# Altium schematic symbol library kmilo17pet-Maxim_Sensors.SchLib: 1172 symbols (part 27 of 61)
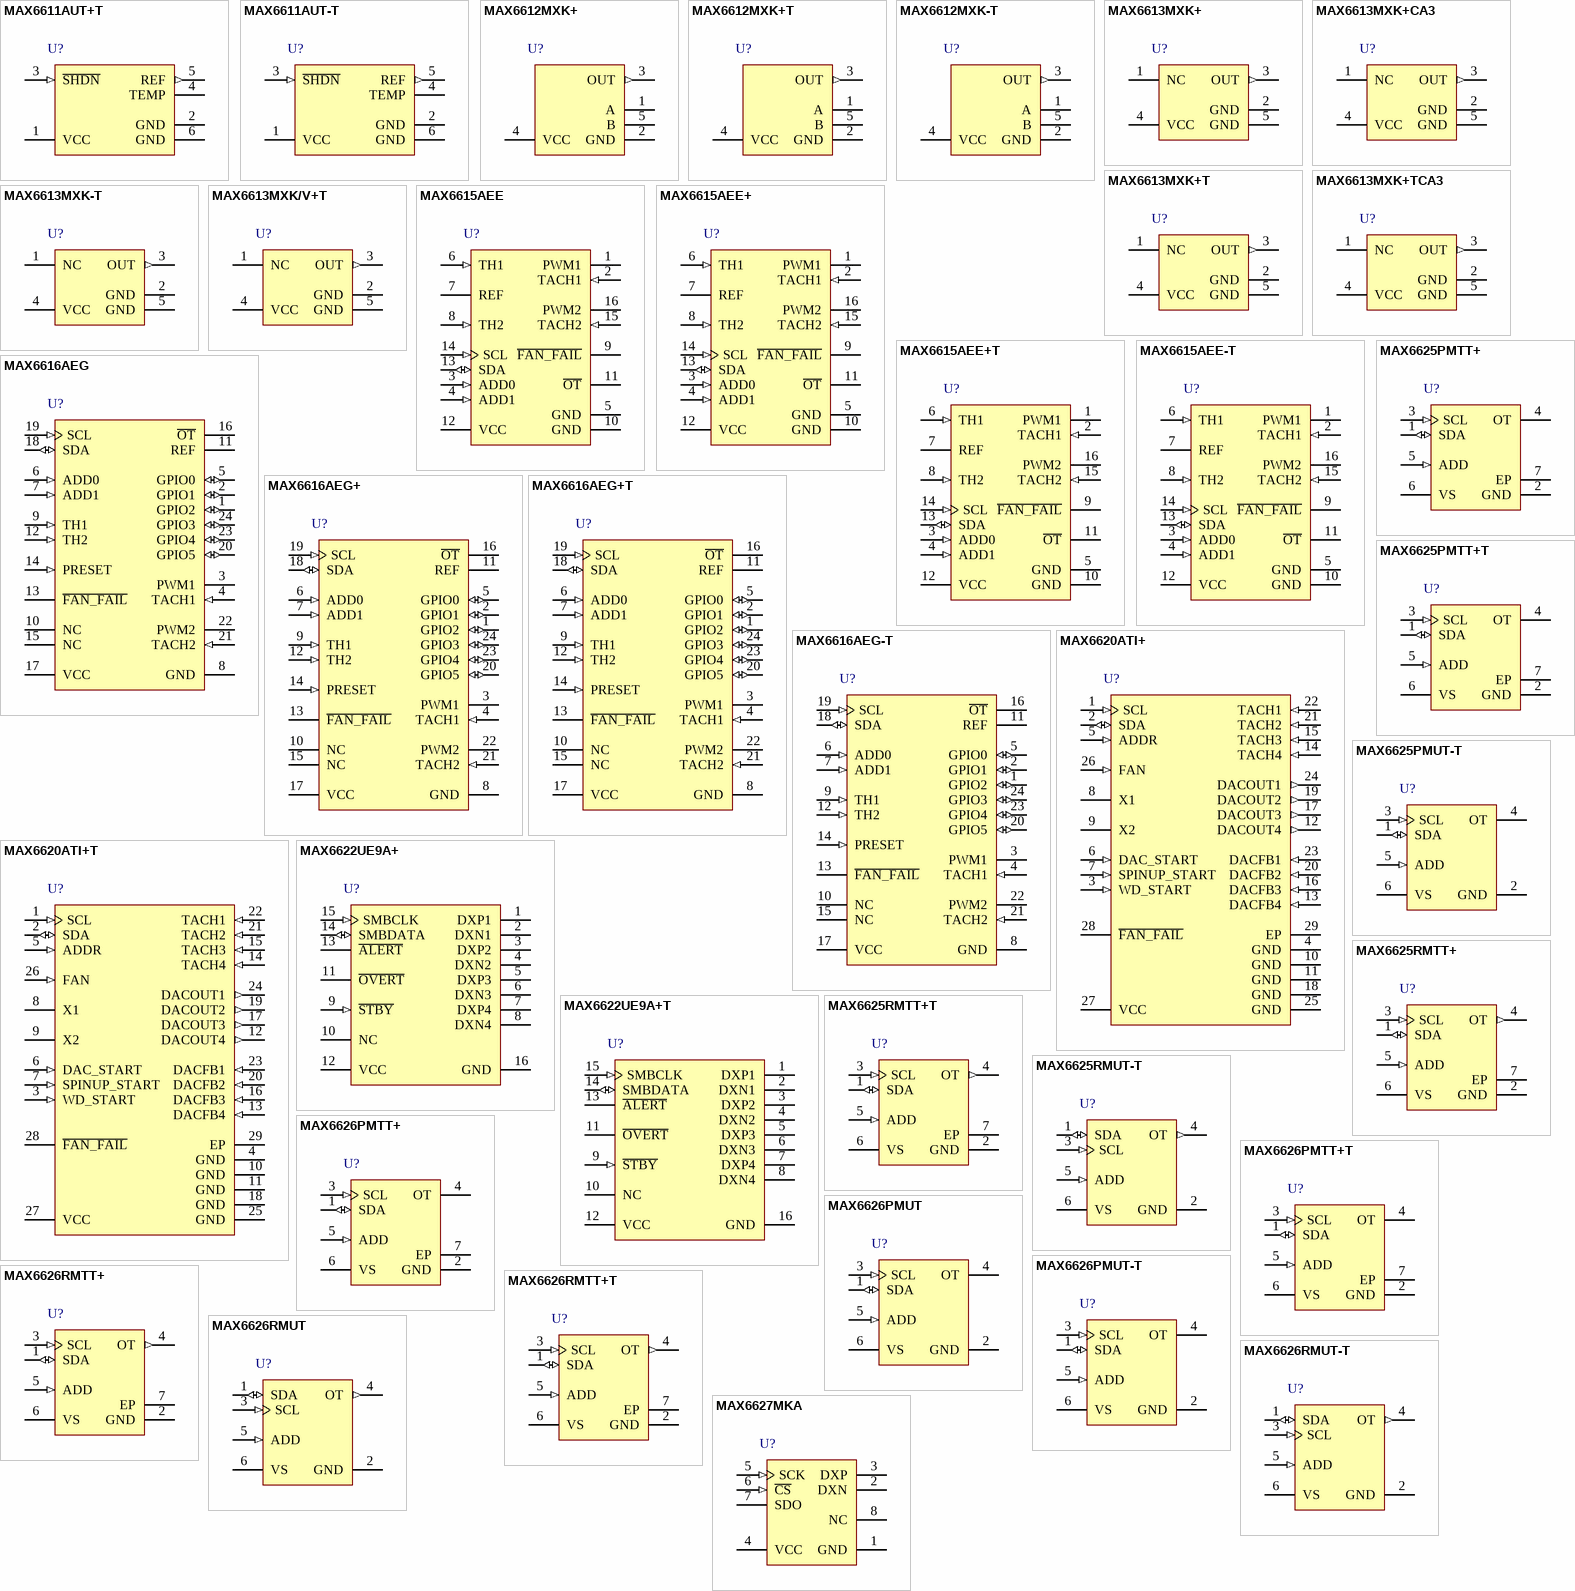
[diagram p59: symbols MAX6611AUT+T to MAX6627MKA]

## MAX6626RMTT+T
designator U?
Temperature Sensor with I2C Interface, 12 Bits Temperature Resolution, -55 to 125 degC, 6-Pin SON (T633+2), Pb-Free, Tape and Reel; Generic Part Number: MAX6626; PartNumber: MAX6626RMTT+T; Alarm Output: Overt; Interface: 2-Wire/I2C/SMBus; Multi Droppable: Yes; Parasite Pwr.: No; DatasheetVersion: Rev. 5; PackageVersion: Rev. J, 08/2009; PackageReference: T633+2; PackageDescription: 6-Pin Plastic Very Very Thin Dual Flatpack No Leads, Exposed Pad, Body 3 x 3 mm, Exposed Pad 2.3 x 1.5 mm, Pitch 0.95 mm; Supplier 1: Digi-Key; Supplier Part Number 1: MAX6626RMTT+T-ND; Supplier 2: Mouser; Supplier Part Number 2: 700-MAX6626RMTTT; Packing: Tape and Reel; Mounting Technology: Surface Mount; Code_JEDEC: MO-229; ComponentLink1Description: Manufacturer URL; ComponentLink1URL: http://www.maximintegrated.com/; ComponentLink2Description: Datasheet; ComponentLink2URL: http://datasheets.maximintegrated.com/en/ds/MAX6625-MAX6626.pdf; ComponentLink3Description: Package Specification; ComponentLink3URL: http://pdfserv.maximintegrated.com/package_dwgs/21-0137.PDF
footprint MAXM-T633+2_V (SON, 6-Leads, Body 3x3mm, Pitch 0.95mm, Thermal Pad 2.3X1.5mm)
pins: 1 SDA (io) "I2C-Compatible Serial Bidirectional Data Line", 2 GND (power) "Power-Supply Ground", 3 SCL (in) "I2C-Compatible Clock Input", 4 OT (out) "Temperature Alarm Output", 5 ADD (in) "I2C-Compatible Address Set Pin: Ground (0), VS (1), SDA (2), SCL (3); see Table 1.", 6 VS (power) "Power-Supply Input, +3V to +5.5V. Bypass VS to GND with a 0.1µF capacitor", 7 EP (power) "Exposed Paddle. Internally connected to GND. Connect to a large ground plane for maximum thermal dissipation."

## MAX6626RMUT
designator U?
Temperature Sensor with I2C Interface, 12 Bits Temperature Resolution, -55 to 125 degC, 6-Pin SOT23 (U6F-6); Generic Part Number: MAX6626; PartNumber: MAX6626RMUT; Alarm Output: Overt; Interface: 2-Wire/I2C/SMBus; Multi Droppable: Yes; Parasite Pwr.: No; DatasheetVersion: Rev. 5; PackageVersion: Rev. N, 08/2012; PackageReference: U6F-6; PackageDescription: 6-Pin Small-Outline Transistor Package, Body 1.625 x 2.9 mm, Pitch 0.95 mm; Supplier 1: Mouser; Supplier Part Number 1: N/A; Mounting Technology: Surface Mount; Code_JEDEC: MO-178; ComponentLink1Description: Manufacturer URL; ComponentLink1URL: http://www.maximintegrated.com/; ComponentLink2Description: Datasheet; ComponentLink2URL: http://datasheets.maximintegrated.com/en/ds/MAX6625-MAX6626.pdf; ComponentLink3Description: Package Specification; ComponentLink3URL: http://pdfserv.maximintegrated.com/package_dwgs/21-0058.PDF
footprint MAXM-U6F-6_N (SOT23, 6-Leads, Body 2.9x1.625mm, Pitch 0.95mm, IPC Medium Density)
footprint MAXM-U6F-6_L (SOT23, 6-Leads, Body 2.9x1.625mm, Pitch 0.95mm, IPC High Density)
footprint MAXM-U6F-6_M (SOT23, 6-Leads, Body 2.9x1.625mm, Pitch 0.95mm, IPC Low Density)
pins: 1 SDA (io) "I2C-Compatible Serial Bidirectional Data Line", 2 GND (power) "Power-Supply Ground", 3 SCL (in) "I2C-Compatible Clock Input", 4 OT (out) "Temperature Alarm Output", 5 ADD (in) "I2C-Compatible Address Set Pin: Ground (0), VS (1), SDA (2), SCL (3); see Table 1.", 6 VS (power) "Power-Supply Input, +3V to +5.5V. Bypass VS to GND with a 0.1µF capacitor"

## MAX6626RMUT-T
designator U?
Temperature Sensor with I2C Interface, 12 Bits Temperature Resolution, -55 to 125 degC, 6-Pin SOT23 (U6F-6), Tape and Reel; Generic Part Number: MAX6626; PartNumber: MAX6626RMUT-T; Alarm Output: Overt; Interface: 2-Wire/I2C/SMBus; Multi Droppable: Yes; Parasite Pwr.: No; DatasheetVersion: Rev. 5; PackageVersion: Rev. N, 08/2012; PackageReference: U6F-6; PackageDescription: 6-Pin Small-Outline Transistor Package, Body 1.625 x 2.9 mm, Pitch 0.95 mm; Supplier 1: Mouser; Supplier Part Number 1: N/A; Packing: Tape and Reel; Mounting Technology: Surface Mount; Code_JEDEC: MO-178; ComponentLink1Description: Manufacturer URL; ComponentLink1URL: http://www.maximintegrated.com/; ComponentLink2Description: Datasheet; ComponentLink2URL: http://datasheets.maximintegrated.com/en/ds/MAX6625-MAX6626.pdf; ComponentLink3Description: Package Specification; ComponentLink3URL: http://pdfserv.maximintegrated.com/package_dwgs/21-0058.PDF
footprint MAXM-U6F-6_N (SOT23, 6-Leads, Body 2.9x1.625mm, Pitch 0.95mm, IPC Medium Density)
footprint MAXM-U6F-6_L (SOT23, 6-Leads, Body 2.9x1.625mm, Pitch 0.95mm, IPC High Density)
footprint MAXM-U6F-6_M (SOT23, 6-Leads, Body 2.9x1.625mm, Pitch 0.95mm, IPC Low Density)
pins: 1 SDA (io) "I2C-Compatible Serial Bidirectional Data Line", 2 GND (power) "Power-Supply Ground", 3 SCL (in) "I2C-Compatible Clock Input", 4 OT (out) "Temperature Alarm Output", 5 ADD (in) "I2C-Compatible Address Set Pin: Ground (0), VS (1), SDA (2), SCL (3); see Table 1.", 6 VS (power) "Power-Supply Input, +3V to +5.5V. Bypass VS to GND with a 0.1µF capacitor"

## MAX6627MKA
designator U?
Remote SPI-Compatible Temperature Sensor with 1-Degree Accuracy, 13 Bits Temperature Resolution, -55 to 125 degC, 8-Pin SOT23 (K8F-4); Generic Part Number: MAX6627; PartNumber: MAX6627MKA; Interface: 3-Wire/SPI; Parasite Pwr.: No; DatasheetVersion: Rev. 5; PackageVersion: Rev. J, 10/2009; PackageReference: K8F-4; PackageDescription: 8-Pin Small-Outline Transistor Package, Body 1.625 x 2.9 mm, Pitch 0.65 mm; Supplier 1: Mouser; Supplier Part Number 1: N/A; Mounting Technology: Surface Mount; Code_JEDEC: MO-178; ComponentLink1Description: Manufacturer URL; ComponentLink1URL: http://www.maximintegrated.com/; ComponentLink2Description: Datasheet; ComponentLink2URL: http://datasheets.maximintegrated.com/en/ds/MAX6627-MAX6628.pdf; ComponentLink3Description: Package Specification; ComponentLink3URL: http://pdfserv.maximintegrated.com/package_dwgs/21-0078.PDF
footprint MAXM-K8F-4_V (SOT23, 8-Leads, Body 2.9x1.625mm, Pitch 0.65mm)
pins: 1 GND (power) "Ground", 2 DXN "Combined Current Sink and ADC Negative Input for Remote Diode. DXN is normally biased to a diode voltage above ground.", 3 DXP "Combined Current Source and ADC Positive Input for Remote Diode. Place a 2200pF capacitor between DXP and DXN for noise filtering.", 4 VCC (power) "Supply Voltage Input. Bypass with a 0.1uF to GND.", 5 SCK (in) "SPI Clock Input", 6 ~{CS} (in) "Chip Select Input. Pulling C\S\ low initiates an idle state, but the SPI interface is still enabled. A rising edge of C\S\ initiates the next conversion.", 7 SDO (hiz) "SPI Data Output", 8 NC "No Connect. Internally not connected. Can be connected to GND for improved thermal conductivity."

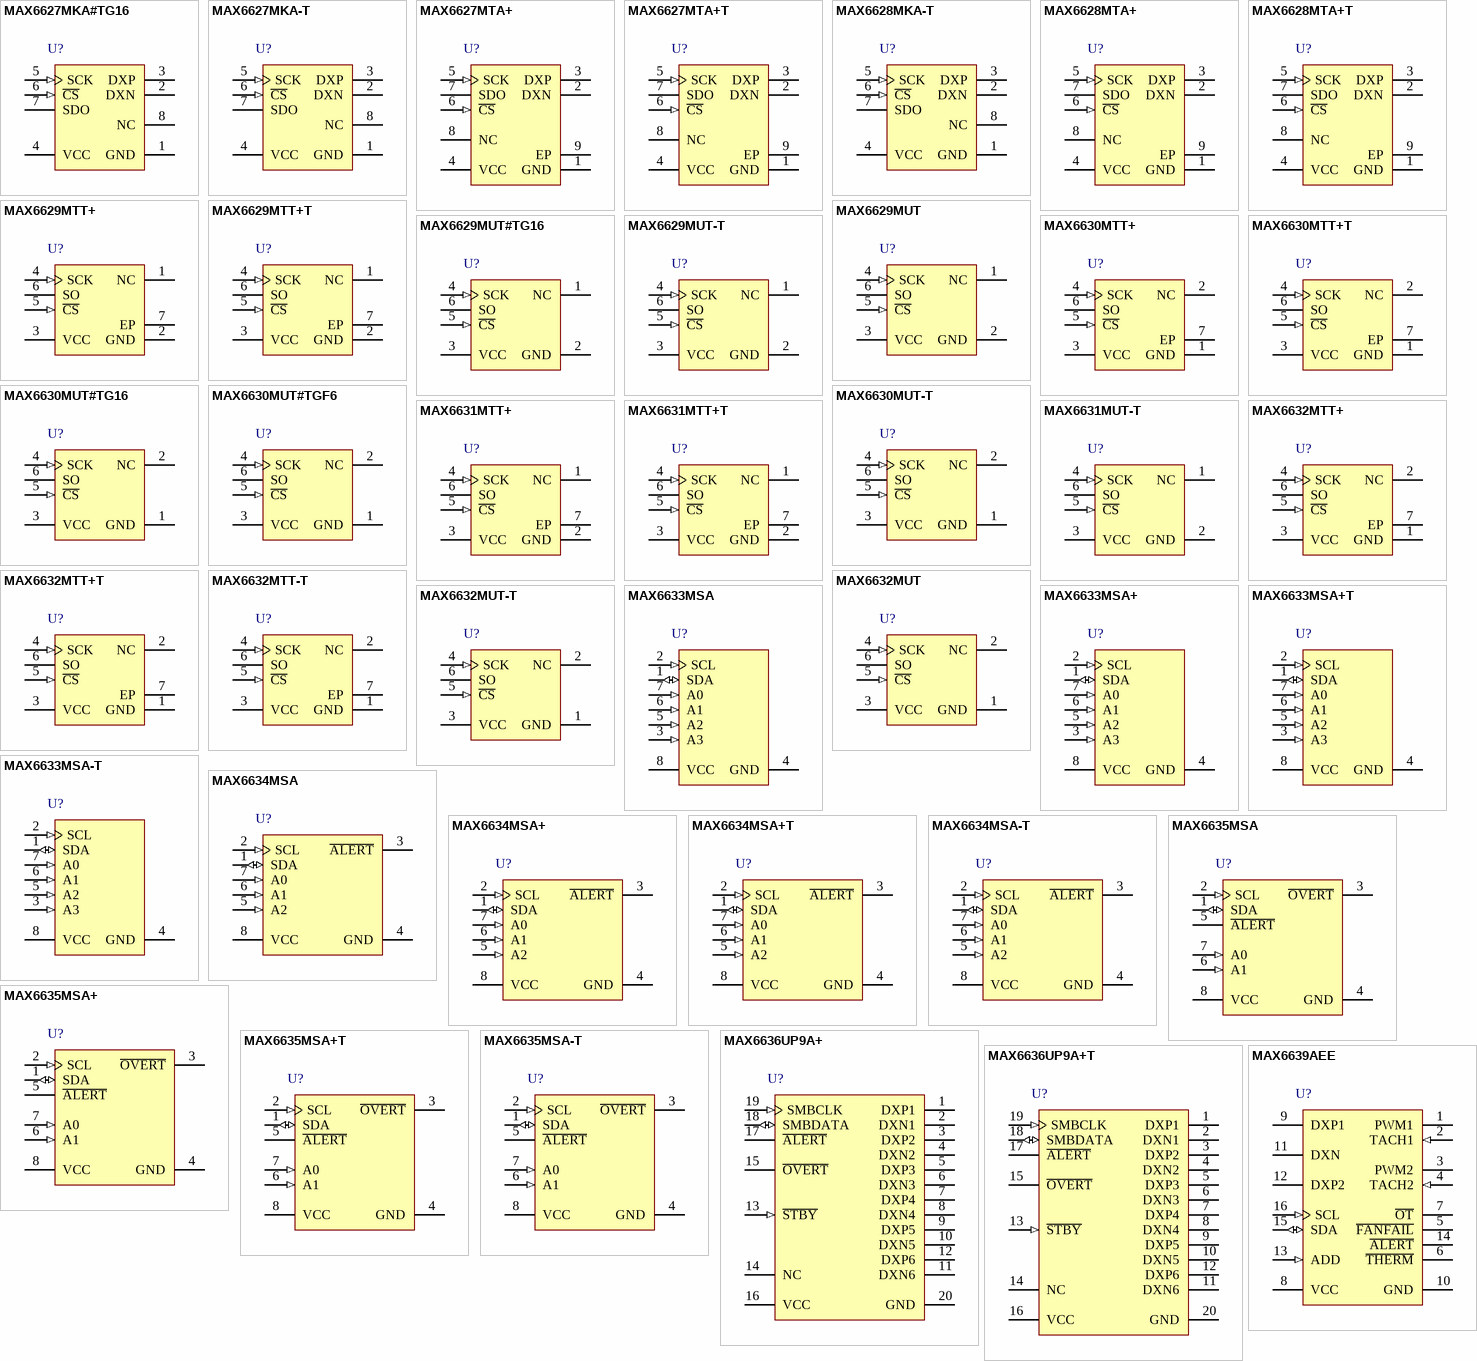
[diagram p16: symbols MAX6627MKA#TG16 to MAX6639AEE]

## MAX6627MKA#TG16
designator U?
Remote SPI-Compatible Temperature Sensor with 1-Degree Accuracy, 13 Bits Temperature Resolution, -55 to 125 degC, 8-Pin SOT23 (K8FH-4); Generic Part Number: MAX6627; PartNumber: MAX6627MKA#TG16; Interface: 3-Wire/SPI; Packing: Tape and Reel; Parasite Pwr.: No; DatasheetVersion: Rev. 5; PackageVersion: Rev. J, 10/2009; PackageReference: K8FH-4; PackageDescription: 8-Pin Small-Outline Transistor Package, Body 1.625 x 2.9 mm, Pitch 0.65 mm; Supplier 1: Digi-Key; Supplier Part Number 1: MAX6627MKA#TG16TR-ND; Supplier 2: Digi-Key; Supplier Part Number 2: MAX6627MKA#TG16CT-ND; Supplier 3: Digi-Key; Supplier Part Number 3: MAX6627MKA#TG16DKR-ND; Supplier 4: Mouser; Supplier Part Number 4: 700-MAX6627MKA#TG16-; Mounting Technology: Surface Mount; Code_JEDEC: MO-178; ComponentLink1Description: Manufacturer URL; ComponentLink1URL: http://www.maximintegrated.com/; ComponentLink2Description: Datasheet; ComponentLink2URL: http://datasheets.maximintegrated.com/en/ds/MAX6627-MAX6628.pdf; ComponentLink3Description: Package Specification; ComponentLink3URL: http://pdfserv.maximintegrated.com/package_dwgs/21-0078.PDF
footprint MAXM-K8FH-4_V (SOT23, 8-Leads, Body 2.9x1.625mm, Pitch 0.65mm)
pins: 1 GND (power) "Ground", 2 DXN "Combined Current Sink and ADC Negative Input for Remote Diode. DXN is normally biased to a diode voltage above ground.", 3 DXP "Combined Current Source and ADC Positive Input for Remote Diode. Place a 2200pF capacitor between DXP and DXN for noise filtering.", 4 VCC (power) "Supply Voltage Input. Bypass with a 0.1uF to GND.", 5 SCK (in) "SPI Clock Input", 6 ~{CS} (in) "Chip Select Input. Pulling C\S\ low initiates an idle state, but the SPI interface is still enabled. A rising edge of C\S\ initiates the next conversion.", 7 SDO (hiz) "SPI Data Output", 8 NC "No Connect. Internally not connected. Can be connected to GND for improved thermal conductivity."

## MAX6627MKA-T
designator U?
Remote SPI-Compatible Temperature Sensor with 1-Degree Accuracy, 13 Bits Temperature Resolution, -55 to 125 degC, 8-Pin SOT23 (K8F-4), Tape and Reel; Generic Part Number: MAX6627; PartNumber: MAX6627MKA-T; Interface: 3-Wire/SPI; Parasite Pwr.: No; DatasheetVersion: Rev. 5; PackageVersion: Rev. J, 10/2009; PackageReference: K8F-4; PackageDescription: 8-Pin Small-Outline Transistor Package, Body 1.625 x 2.9 mm, Pitch 0.65 mm; Supplier 1: Digi-Key; Supplier Part Number 1: MAX6627MKA-T-ND; Supplier 2: Mouser; Supplier Part Number 2: 700-MAX6627MKA-T-; Packing: Tape and Reel; Mounting Technology: Surface Mount; Code_JEDEC: MO-178; ComponentLink1Description: Manufacturer URL; ComponentLink1URL: http://www.maximintegrated.com/; ComponentLink2Description: Datasheet; ComponentLink2URL: http://datasheets.maximintegrated.com/en/ds/MAX6627-MAX6628.pdf; ComponentLink3Description: Package Specification; ComponentLink3URL: http://pdfserv.maximintegrated.com/package_dwgs/21-0078.PDF
footprint MAXM-K8F-4_V (SOT23, 8-Leads, Body 2.9x1.625mm, Pitch 0.65mm)
pins: 1 GND (power) "Ground", 2 DXN "Combined Current Sink and ADC Negative Input for Remote Diode. DXN is normally biased to a diode voltage above ground.", 3 DXP "Combined Current Source and ADC Positive Input for Remote Diode. Place a 2200pF capacitor between DXP and DXN for noise filtering.", 4 VCC (power) "Supply Voltage Input. Bypass with a 0.1uF to GND.", 5 SCK (in) "SPI Clock Input", 6 ~{CS} (in) "Chip Select Input. Pulling C\S\ low initiates an idle state, but the SPI interface is still enabled. A rising edge of C\S\ initiates the next conversion.", 7 SDO (hiz) "SPI Data Output", 8 NC "No Connect. Internally not connected. Can be connected to GND for improved thermal conductivity."

## MAX6627MTA+
designator U?
Remote SPI-Compatible Temperature Sensor with 1-Degree Accuracy, 13 Bits Temperature Resolution, -55 to 125 degC, 8-Pin SON (T833+2), Pb-Free; Generic Part Number: MAX6627; PartNumber: MAX6627MTA+; Interface: 3-Wire/SPI; Parasite Pwr.: No; DatasheetVersion: Rev. 5; PackageVersion: Rev. J, 08/2009; PackageReference: T833+2; PackageDescription: 8-Pin Plastic Very Very Thin Dual Flatpack No Leads, Exposed Pad (T833+2); Supplier 1: Mouser; Supplier Part Number 1: N/A; Mounting Technology: Surface Mount; Code_JEDEC: MO229; ComponentLink1Description: Manufacturer URL; ComponentLink1URL: http://www.maximintegrated.com/; ComponentLink2Description: Datasheet; ComponentLink2URL: http://datasheets.maximintegrated.com/en/ds/MAX6627-MAX6628.pdf; ComponentLink3Description: Package Specification; ComponentLink3URL: http://pdfserv.maximintegrated.com/package_dwgs/21-0137.PDF
footprint MAXM-T833+2_V (SON, 8-Leads, Body 3x3 mm, Pitch 0.65mm, Thermal Pad 2.3x1.5mm)
pins: 1 GND (power) "Ground", 2 DXN "Combined Current Sink and ADC Negative Input for Remote Diode. DXN is normally biased to a diode voltage above ground.", 3 DXP "Combined Current Source and ADC Positive Input for Remote Diode. Place a 2200pF capacitor between DXP and DXN for noise filtering.", 4 VCC (power) "Supply Voltage Input. Bypass with a 0.1uF to GND.", 5 SCK (in) "SPI Clock Input", 6 ~{CS} (in) "Chip Select Input. Pulling C\S\ low initiates an idle state, but the SPI interface is still enabled. A rising edge of C\S\ initiates the next conversion.", 7 SDO (hiz) "SPI Data Output", 8 NC "No Connect. Internally not connected. Can be connected to GND for improved thermal conductivity.", 9 EP (power) "Exposed Pad. Internally connected to GND. Connect to a large ground plane to maximize thermal performance. Not intended as an electrical connection point."

## MAX6627MTA+T
designator U?
Remote SPI-Compatible Temperature Sensor with 1-Degree Accuracy, 13 Bits Temperature Resolution, -55 to 125 degC, 8-Pin SON (T833+2), Pb-Free, Tape and Reel; Generic Part Number: MAX6627; PartNumber: MAX6627MTA+T; Interface: 3-Wire/SPI; Parasite Pwr.: No; DatasheetVersion: Rev. 5; PackageVersion: Rev. J, 08/2009; PackageReference: T833+2; PackageDescription: 8-Pin Plastic Very Very Thin Dual Flatpack No Leads, Exposed Pad (T833+2); Supplier 1: Digi-Key; Supplier Part Number 1: MAX6627MTA+TTR-ND; Supplier 2: Digi-Key; Supplier Part Number 2: MAX6627MTA+TCT-ND; Supplier 3: Digi-Key; Supplier Part Number 3: MAX6627MTA+TDKR-ND; Supplier 4: Mouser; Supplier Part Number 4: 700-MAX6627MTAT; Packing: Tape and Reel; Mounting Technology: Surface Mount; Code_JEDEC: MO229; ComponentLink1Description: Manufacturer URL; ComponentLink1URL: http://www.maximintegrated.com/; ComponentLink2Description: Datasheet; ComponentLink2URL: http://datasheets.maximintegrated.com/en/ds/MAX6627-MAX6628.pdf; ComponentLink3Description: Package Specification; ComponentLink3URL: http://pdfserv.maximintegrated.com/package_dwgs/21-0137.PDF
footprint MAXM-T833+2_V (SON, 8-Leads, Body 3x3 mm, Pitch 0.65mm, Thermal Pad 2.3x1.5mm)
pins: 1 GND (power) "Ground", 2 DXN "Combined Current Sink and ADC Negative Input for Remote Diode. DXN is normally biased to a diode voltage above ground.", 3 DXP "Combined Current Source and ADC Positive Input for Remote Diode. Place a 2200pF capacitor between DXP and DXN for noise filtering.", 4 VCC (power) "Supply Voltage Input. Bypass with a 0.1uF to GND.", 5 SCK (in) "SPI Clock Input", 6 ~{CS} (in) "Chip Select Input. Pulling C\S\ low initiates an idle state, but the SPI interface is still enabled. A rising edge of C\S\ initiates the next conversion.", 7 SDO (hiz) "SPI Data Output", 8 NC "No Connect. Internally not connected. Can be connected to GND for improved thermal conductivity.", 9 EP (power) "Exposed Pad. Internally connected to GND. Connect to a large ground plane to maximize thermal performance. Not intended as an electrical connection point."

## MAX6628MKA-T
designator U?
Remote SPI-Compatible Temperature Sensor with 1-Degree Accuracy, 13 Bits Temperature Resolution, -55 to 125 degC, 8-Pin SOT23 (K8F-4), Tape and Reel; Generic Part Number: MAX6628; PartNumber: MAX6628MKA-T; Interface: 3-Wire/SPI; Parasite Pwr.: No; DatasheetVersion: Rev. 5; PackageVersion: Rev. J, 10/2009; PackageReference: K8F-4; PackageDescription: 8-Pin Small-Outline Transistor Package, Body 1.625 x 2.9 mm, Pitch 0.65 mm; Supplier 1: Digi-Key; Supplier Part Number 1: MAX6628MKA-T-ND; Supplier 2: Farnell; Supplier Part Number 2: 1798131; Supplier 3: Mouser; Supplier Part Number 3: 700-MAX6628MKA-T-; Packing: Tape and Reel; Mounting Technology: Surface Mount; Code_JEDEC: MO-178; ComponentLink1Description: Manufacturer URL; ComponentLink1URL: http://www.maximintegrated.com/; ComponentLink2Description: Datasheet; ComponentLink2URL: http://datasheets.maximintegrated.com/en/ds/MAX6627-MAX6628.pdf; ComponentLink3Description: Package Specification; ComponentLink3URL: http://pdfserv.maximintegrated.com/package_dwgs/21-0078.PDF
footprint MAXM-K8F-4_V (SOT23, 8-Leads, Body 2.9x1.625mm, Pitch 0.65mm)
pins: 1 GND (power) "Ground", 2 DXN "Combined Current Sink and ADC Negative Input for Remote Diode. DXN is normally biased to a diode voltage above ground.", 3 DXP "Combined Current Source and ADC Positive Input for Remote Diode. Place a 2200pF capacitor between DXP and DXN for noise filtering.", 4 VCC (power) "Supply Voltage Input. Bypass with a 0.1uF to GND.", 5 SCK (in) "SPI Clock Input", 6 ~{CS} (in) "Chip Select Input. Pulling C\S\ low initiates an idle state, but the SPI interface is still enabled. A rising edge of C\S\ initiates the next conversion.", 7 SDO (hiz) "SPI Data Output", 8 NC "No Connect. Internally not connected. Can be connected to GND for improved thermal conductivity."

## MAX6628MTA+
designator U?
Remote SPI-Compatible Temperature Sensor with 1-Degree Accuracy, 13 Bits Temperature Resolution, -55 to 125 degC, 8-Pin SON (T833+2), Pb-Free; Generic Part Number: MAX6628; PartNumber: MAX6628MTA+; Interface: 3-Wire/SPI; Parasite Pwr.: No; DatasheetVersion: Rev. 5; PackageVersion: Rev. J, 08/2009; PackageReference: T833+2; PackageDescription: 8-Pin Plastic Very Very Thin Dual Flatpack No Leads, Exposed Pad (T833+2); Supplier 1: Mouser; Supplier Part Number 1: N/A; Mounting Technology: Surface Mount; Code_JEDEC: MO229; ComponentLink1Description: Manufacturer URL; ComponentLink1URL: http://www.maximintegrated.com/; ComponentLink2Description: Datasheet; ComponentLink2URL: http://datasheets.maximintegrated.com/en/ds/MAX6627-MAX6628.pdf; ComponentLink3Description: Package Specification; ComponentLink3URL: http://pdfserv.maximintegrated.com/package_dwgs/21-0137.PDF
footprint MAXM-T833+2_V (SON, 8-Leads, Body 3x3 mm, Pitch 0.65mm, Thermal Pad 2.3x1.5mm)
pins: 1 GND (power) "Ground", 2 DXN "Combined Current Sink and ADC Negative Input for Remote Diode. DXN is normally biased to a diode voltage above ground.", 3 DXP "Combined Current Source and ADC Positive Input for Remote Diode. Place a 2200pF capacitor between DXP and DXN for noise filtering.", 4 VCC (power) "Supply Voltage Input. Bypass with a 0.1uF to GND.", 5 SCK (in) "SPI Clock Input", 6 ~{CS} (in) "Chip Select Input. Pulling C\S\ low initiates an idle state, but the SPI interface is still enabled. A rising edge of C\S\ initiates the next conversion.", 7 SDO (hiz) "SPI Data Output", 8 NC "No Connect. Internally not connected. Can be connected to GND for improved thermal conductivity.", 9 EP (power) "Exposed Pad. Internally connected to GND. Connect to a large ground plane to maximize thermal performance. Not intended as an electrical connection point."

## MAX6628MTA+T
designator U?
Remote SPI-Compatible Temperature Sensor with 1-Degree Accuracy, 13 Bits Temperature Resolution, -55 to 125 degC, 8-Pin SON (T833+2), Pb-Free, Tape and Reel; Generic Part Number: MAX6628; PartNumber: MAX6628MTA+T; Interface: 3-Wire/SPI; Parasite Pwr.: No; DatasheetVersion: Rev. 5; PackageVersion: Rev. J, 08/2009; PackageReference: T833+2; PackageDescription: 8-Pin Plastic Very Very Thin Dual Flatpack No Leads, Exposed Pad (T833+2); Supplier 1: Digi-Key; Supplier Part Number 1: MAX6628MTA+TTR-ND; Supplier 2: Digi-Key; Supplier Part Number 2: MAX6628MTA+TCT-ND; Supplier 3: Digi-Key; Supplier Part Number 3: MAX6628MTA+TDKR-ND; Supplier 4: Mouser; Supplier Part Number 4: 700-MAX6628MTAT; Packing: Tape and Reel; Mounting Technology: Surface Mount; Code_JEDEC: MO229; ComponentLink1Description: Manufacturer URL; ComponentLink1URL: http://www.maximintegrated.com/; ComponentLink2Description: Datasheet; ComponentLink2URL: http://datasheets.maximintegrated.com/en/ds/MAX6627-MAX6628.pdf; ComponentLink3Description: Package Specification; ComponentLink3URL: http://pdfserv.maximintegrated.com/package_dwgs/21-0137.PDF
footprint MAXM-T833+2_V (SON, 8-Leads, Body 3x3 mm, Pitch 0.65mm, Thermal Pad 2.3x1.5mm)
pins: 1 GND (power) "Ground", 2 DXN "Combined Current Sink and ADC Negative Input for Remote Diode. DXN is normally biased to a diode voltage above ground.", 3 DXP "Combined Current Source and ADC Positive Input for Remote Diode. Place a 2200pF capacitor between DXP and DXN for noise filtering.", 4 VCC (power) "Supply Voltage Input. Bypass with a 0.1uF to GND.", 5 SCK (in) "SPI Clock Input", 6 ~{CS} (in) "Chip Select Input. Pulling C\S\ low initiates an idle state, but the SPI interface is still enabled. A rising edge of C\S\ initiates the next conversion.", 7 SDO (hiz) "SPI Data Output", 8 NC "No Connect. Internally not connected. Can be connected to GND for improved thermal conductivity.", 9 EP (power) "Exposed Pad. Internally connected to GND. Connect to a large ground plane to maximize thermal performance. Not intended as an electrical connection point."

## MAX6629MTT+
designator U?
+ Sign Digital Temperature Sensor with Serial Interface, 12 Bits Temperature Resolution, -55 to 125 degC, 6-Pin SON (T633+2), Pb-Free; Generic Part Number: MAX6629; PartNumber: MAX6629MTT+; Interface: 3-Wire/SPI; Parasite Pwr.: No; DatasheetVersion: Rev. 4; PackageVersion: Rev. J, 08/2009; PackageReference: T633+2; PackageDescription: 6-Pin Plastic Very Very Thin Dual Flatpack No Leads, Exposed Pad, Body 3 x 3 mm, Exposed Pad 2.3 x 1.5 mm, Pitch 0.95 mm; Supplier 1: Mouser; Supplier Part Number 1: N/A; Mounting Technology: Surface Mount; Code_JEDEC: MO-229; ComponentLink1Description: Manufacturer URL; ComponentLink1URL: http://www.maximintegrated.com/; ComponentLink2Description: Datasheet; ComponentLink2URL: http://datasheets.maximintegrated.com/en/ds/MAX6629-MAX6632.pdf; ComponentLink3Description: Package Specification; ComponentLink3URL: http://pdfserv.maximintegrated.com/package_dwgs/21-0137.PDF
footprint MAXM-T633+2_V (SON, 6-Leads, Body 3x3mm, Pitch 0.95mm, Thermal Pad 2.3X1.5mm)
pins: 1 NC "No Connect. Connect to ground plane for better thermal performance to the PC board", 2 GND (power) "Ground", 3 VCC (power) "Supply Voltage Input. Bypass VCC to GND with a 0.1uF capacitor. VCC can also be powered from a logic output as long as the voltage level is greater than 3.0V and the logic output is not noisy. Setting the logic output low (See Datasheet)", 4 SCK (in) "Serial Clock Input", 5 ~{CS} (in) "Chip-Select Input. Enables the interface. A rising edge off C\S\ initiates the next conversion. Pulling C\S\ low initiates an idle state", 6 SO (hiz) "Serial Data Output", 7 EP (power) "Exposed Pad (TDFN only). Connect to GND or leave unconnected"

## MAX6629MTT+T
designator U?
+ Sign Digital Temperature Sensor with Serial Interface, 12 Bits Temperature Resolution, -55 to 125 degC, 6-Pin SON (T633+2), Pb-Free, Tape and Reel; Generic Part Number: MAX6629; PartNumber: MAX6629MTT+T; Interface: 3-Wire/SPI; Parasite Pwr.: No; DatasheetVersion: Rev. 4; PackageVersion: Rev. J, 08/2009; PackageReference: T633+2; PackageDescription: 6-Pin Plastic Very Very Thin Dual Flatpack No Leads, Exposed Pad, Body 3 x 3 mm, Exposed Pad 2.3 x 1.5 mm, Pitch 0.95 mm; Supplier 1: Digi-Key; Supplier Part Number 1: MAX6629MTT+TTR-ND; Supplier 2: Digi-Key; Supplier Part Number 2: MAX6629MTT+TCT-ND; Supplier 3: Digi-Key; Supplier Part Number 3: MAX6629MTT+TDKR-ND; Supplier 4: Mouser; Supplier Part Number 4: 700-MAX6629MTTT; Packing: Tape and Reel; Mounting Technology: Surface Mount; Code_JEDEC: MO-229; ComponentLink1Description: Manufacturer URL; ComponentLink1URL: http://www.maximintegrated.com/; ComponentLink2Description: Datasheet; ComponentLink2URL: http://datasheets.maximintegrated.com/en/ds/MAX6629-MAX6632.pdf; ComponentLink3Description: Package Specification; ComponentLink3URL: http://pdfserv.maximintegrated.com/package_dwgs/21-0137.PDF
footprint MAXM-T633+2_V (SON, 6-Leads, Body 3x3mm, Pitch 0.95mm, Thermal Pad 2.3X1.5mm)
pins: 1 NC "No Connect. Connect to ground plane for better thermal performance to the PC board", 2 GND (power) "Ground", 3 VCC (power) "Supply Voltage Input. Bypass VCC to GND with a 0.1uF capacitor. VCC can also be powered from a logic output as long as the voltage level is greater than 3.0V and the logic output is not noisy. Setting the logic output low (See Datasheet)", 4 SCK (in) "Serial Clock Input", 5 ~{CS} (in) "Chip-Select Input. Enables the interface. A rising edge off C\S\ initiates the next conversion. Pulling C\S\ low initiates an idle state", 6 SO (hiz) "Serial Data Output", 7 EP (power) "Exposed Pad (TDFN only). Connect to GND or leave unconnected"

## MAX6629MUT
designator U?
+ Sign Digital Temperature Sensor with Serial Interface, 12 Bits Temperature Resolution, -55 to 125 degC, 6-Pin SOT23 (U6F-6); Generic Part Number: MAX6629; PartNumber: MAX6629MUT; Interface: 3-Wire/SPI; Parasite Pwr.: No; DatasheetVersion: Rev. 4; PackageVersion: Rev. N, 08/2012; PackageReference: U6F-6; PackageDescription: 6-Pin Small-Outline Transistor Package, Body 1.625 x 2.9 mm, Pitch 0.95 mm; Supplier 1: Mouser; Supplier Part Number 1: N/A; Mounting Technology: Surface Mount; Code_JEDEC: MO-178; ComponentLink1Description: Manufacturer URL; ComponentLink1URL: http://www.maximintegrated.com/; ComponentLink2Description: Datasheet; ComponentLink2URL: http://datasheets.maximintegrated.com/en/ds/MAX6629-MAX6632.pdf; ComponentLink3Description: Package Specification; ComponentLink3URL: http://pdfserv.maximintegrated.com/package_dwgs/21-0058.PDF
footprint MAXM-U6F-6_N (SOT23, 6-Leads, Body 2.9x1.625mm, Pitch 0.95mm, IPC Medium Density)
footprint MAXM-U6F-6_L (SOT23, 6-Leads, Body 2.9x1.625mm, Pitch 0.95mm, IPC High Density)
footprint MAXM-U6F-6_M (SOT23, 6-Leads, Body 2.9x1.625mm, Pitch 0.95mm, IPC Low Density)
pins: 1 NC "No Connect. Connect to ground plane for better thermal performance to the PC board.", 2 GND (power) "Ground", 3 VCC (power) "Supply Voltage Input. Bypass VCC to GND with a 0.1uF capacitor. VCC can also be powered from a logic output as long as the voltage level is greater than 3.0V and the logic output is not noisy. Setting the logic output low (See Datasheet)", 4 SCK (in) "Serial Clock Input", 5 ~{CS} (in) "Chip-Select Input. Enables the interface. A rising edge off C\S\ initiates the next conversion. Pulling C\S\ low initiates an idle state.", 6 SO (hiz) "Serial Data Output"

## MAX6629MUT#TG16
designator U?
+ Sign Digital Temperature Sensor with Serial Interface, 12 Bits Temperature Resolution, -55 to 125 degC, 6-Pin SOT23 (U6FH-6), Tape and Reel; Generic Part Number: MAX6629; PartNumber: MAX6629MUT#TG16; Interface: 3-Wire/SPI; Parasite Pwr.: No; DatasheetVersion: Rev. 4; PackageVersion: Rev. N, 08/2012; PackageReference: U6FH-6; PackageDescription: 6-Pin Small-Outline Transistor Package, Body 1.625 x 2.9 mm, Pitch 0.95 mm; Supplier 1: Digi-Key; Supplier Part Number 1: MAX6629MUT#TG16-ND; Supplier 2: Mouser; Supplier Part Number 2: 700-MAX6629MUT#TG16-; Packing: Tape and Reel; Mounting Technology: Surface Mount; Code_JEDEC: MO-178; ComponentLink1Description: Manufacturer URL; ComponentLink1URL: http://www.maximintegrated.com/; ComponentLink2Description: Datasheet; ComponentLink2URL: http://datasheets.maximintegrated.com/en/ds/MAX6629-MAX6632.pdf; ComponentLink3Description: Package Specification; ComponentLink3URL: http://pdfserv.maximintegrated.com/package_dwgs/21-0058.PDF
footprint MAXM-U6FH-6_N (SPT23, 6-Leads, Body 2.9x1.625mm, Pitch 0.95mm, IPC Medium Density)
footprint MAXM-U6FH-6_L (SOT23, 6-Leads, Body 2.9x1.625mm, Pitch 0.95mm, IPC High Density)
footprint MAXM-U6FH-6_M (SOT23, 6-Leads, Body 2.9x1.625mm, Pitch 0.95mm, IPC Low Density)
pins: 1 NC "No Connect. Connect to ground plane for better thermal performance to the PC board", 2 GND (power) "Ground", 3 VCC (power) "Supply Voltage Input. Bypass VCC to GND with a 0.1uF capacitor. VCC can also be powered from a logic output as long as the voltage level is greater than 3.0V and the logic output is not noisy. Setting the logic output low (See Datasheet)", 4 SCK (in) "Serial Clock Input", 5 ~{CS} (in) "Chip-Select Input. Enables the interface. A rising edge off C\S\ initiates the next conversion. Pulling C\S\ low initiates an idle state", 6 SO (hiz) "Serial Data Output"

## MAX6629MUT-T
designator U?
+ Sign Digital Temperature Sensor with Serial Interface, 12 Bits Temperature Resolution, -55 to 125 degC, 6-Pin SOT23 (U6F-6), Tape and Reel; Generic Part Number: MAX6629; PartNumber: MAX6629MUT-T; Interface: 3-Wire/SPI; Parasite Pwr.: No; DatasheetVersion: Rev. 4; PackageVersion: Rev. N, 08/2012; PackageReference: U6F-6; PackageDescription: 6-Pin Small-Outline Transistor Package, Body 1.625 x 2.9 mm, Pitch 0.95 mm; Supplier 1: Mouser; Supplier Part Number 1: N/A; Packing: Tape and Reel; Mounting Technology: Surface Mount; Code_JEDEC: MO-178; ComponentLink1Description: Manufacturer URL; ComponentLink1URL: http://www.maximintegrated.com/; ComponentLink2Description: Datasheet; ComponentLink2URL: http://datasheets.maximintegrated.com/en/ds/MAX6629-MAX6632.pdf; ComponentLink3Description: Package Specification; ComponentLink3URL: http://pdfserv.maximintegrated.com/package_dwgs/21-0058.PDF
footprint MAXM-U6F-6_N (SOT23, 6-Leads, Body 2.9x1.625mm, Pitch 0.95mm, IPC Medium Density)
footprint MAXM-U6F-6_L (SOT23, 6-Leads, Body 2.9x1.625mm, Pitch 0.95mm, IPC High Density)
footprint MAXM-U6F-6_M (SOT23, 6-Leads, Body 2.9x1.625mm, Pitch 0.95mm, IPC Low Density)
pins: 1 NC "No Connect. Connect to ground plane for better thermal performance to the PC board.", 2 GND (power) "Ground", 3 VCC (power) "Supply Voltage Input. Bypass VCC to GND with a 0.1uF capacitor. VCC can also be powered from a logic output as long as the voltage level is greater than 3.0V and the logic output is not noisy. Setting the logic output low (See Datasheet)", 4 SCK (in) "Serial Clock Input", 5 ~{CS} (in) "Chip-Select Input. Enables the interface. A rising edge off C\S\ initiates the next conversion. Pulling C\S\ low initiates an idle state.", 6 SO (hiz) "Serial Data Output"

## MAX6630MTT+
designator U?
+ Sign Digital Temperature Sensor with Serial Interface, 12 Bits Temperature Resolution, -55 to 125 degC, 6-Pin SON (T633+2), Pb-Free; Generic Part Number: MAX6630; PartNumber: MAX6630MTT+; Interface: 3-Wire/SPI; Parasite Pwr.: No; DatasheetVersion: Rev. 4; PackageVersion: Rev. J, 08/2009; PackageReference: T633+2; PackageDescription: 6-Pin Plastic Very Very Thin Dual Flatpack No Leads, Exposed Pad, Body 3 x 3 mm, Exposed Pad 2.3 x 1.5 mm, Pitch 0.95 mm; Supplier 1: Mouser; Supplier Part Number 1: N/A; Mounting Technology: Surface Mount; Code_JEDEC: MO-229; ComponentLink1Description: Manufacturer URL; ComponentLink1URL: http://www.maximintegrated.com/; ComponentLink2Description: Datasheet; ComponentLink2URL: http://datasheets.maximintegrated.com/en/ds/MAX6629-MAX6632.pdf; ComponentLink3Description: Package Specification; ComponentLink3URL: http://pdfserv.maximintegrated.com/package_dwgs/21-0137.PDF
footprint MAXM-T633+2_V (SON, 6-Leads, Body 3x3mm, Pitch 0.95mm, Thermal Pad 2.3X1.5mm)
pins: 1 GND (power) "Ground", 2 NC "No Connect. Connect to ground plane for better thermal performance to the PC board.", 3 VCC (power) "Supply Voltage Input. Bypass VCC to GND with a 0.1uF capacitor. VCC can also be powered from a logic output as long as the voltage level is greater than 3.0V and the logic output is not noisy. Setting the logic output low (See Datasheet)", 4 SCK (in) "Serial Clock Input", 5 ~{CS} (in) "Chip-Select Input. Enables the interface. A rising edge off C\S\ initiates the next conversion. Pulling C\S\ low initiates an idle state.", 6 SO (hiz) "Serial Data Output", 7 EP (power) "Exposed Pad (TDFN only). Connect to GND or leave unconnected."

## MAX6630MTT+T
designator U?
+ Sign Digital Temperature Sensor with Serial Interface, 12 Bits Temperature Resolution, -55 to 125 degC, 6-Pin SON (T633+2), Pb-Free, Tape and Reel; Generic Part Number: MAX6630; PartNumber: MAX6630MTT+T; Interface: 3-Wire/SPI; Parasite Pwr.: No; DatasheetVersion: Rev. 4; PackageVersion: Rev. J, 08/2009; PackageReference: T633+2; PackageDescription: 6-Pin Plastic Very Very Thin Dual Flatpack No Leads, Exposed Pad, Body 3 x 3 mm, Exposed Pad 2.3 x 1.5 mm, Pitch 0.95 mm; Supplier 1: Digi-Key; Supplier Part Number 1: MAX6630MTT+TTR-ND; Supplier 2: Digi-Key; Supplier Part Number 2: MAX6630MTT+TCT-ND; Supplier 3: Digi-Key; Supplier Part Number 3: MAX6630MTT+TDKR-ND; Supplier 4: Mouser; Supplier Part Number 4: 700-MAX6630MTTT; Packing: Tape and Reel; Mounting Technology: Surface Mount; Code_JEDEC: MO-229; ComponentLink1Description: Manufacturer URL; ComponentLink1URL: http://www.maximintegrated.com/; ComponentLink2Description: Datasheet; ComponentLink2URL: http://datasheets.maximintegrated.com/en/ds/MAX6629-MAX6632.pdf; ComponentLink3Description: Package Specification; ComponentLink3URL: http://pdfserv.maximintegrated.com/package_dwgs/21-0137.PDF
footprint MAXM-T633+2_V (SON, 6-Leads, Body 3x3mm, Pitch 0.95mm, Thermal Pad 2.3X1.5mm)
pins: 1 GND (power) "Ground", 2 NC "No Connect. Connect to ground plane for better thermal performance to the PC board.", 3 VCC (power) "Supply Voltage Input. Bypass VCC to GND with a 0.1uF capacitor. VCC can also be powered from a logic output as long as the voltage level is greater than 3.0V and the logic output is not noisy. Setting the logic output low (See Datasheet)", 4 SCK (in) "Serial Clock Input", 5 ~{CS} (in) "Chip-Select Input. Enables the interface. A rising edge off C\S\ initiates the next conversion. Pulling C\S\ low initiates an idle state.", 6 SO (hiz) "Serial Data Output", 7 EP (power) "Exposed Pad (TDFN only). Connect to GND or leave unconnected."

## MAX6630MUT#TG16
designator U?
+ Sign Digital Temperature Sensor with Serial Interface, 12 Bits Temperature Resolution, -55 to 125 degC, 6-Pin SOT23 (U6FH-6); Generic Part Number: MAX6630; PartNumber: MAX6630MUT#TG16; Interface: 3-Wire/SPI; Parasite Pwr.: No; DatasheetVersion: Rev. 4; PackageVersion: Rev. N, 08/2012; PackageReference: U6FH-6; PackageDescription: 6-Pin Small-Outline Transistor Package, Body 1.625 x 2.9 mm, Pitch 0.95 mm; Supplier 1: Digi-Key; Supplier Part Number 1: MAX6630MUT#TG16TR-ND; Supplier 2: Digi-Key; Supplier Part Number 2: MAX6630MUT#TG16CT-ND; Supplier 3: Digi-Key; Supplier Part Number 3: MAX6630MUT#TG16DKR-ND; Supplier 4: Mouser; Supplier Part Number 4: 700-MAX6630MUT#TG16-; Mounting Technology: Surface Mount; Code_JEDEC: MO-178; ComponentLink1Description: Manufacturer URL; ComponentLink1URL: http://www.maximintegrated.com/; ComponentLink2Description: Datasheet; ComponentLink2URL: http://datasheets.maximintegrated.com/en/ds/MAX6629-MAX6632.pdf; ComponentLink3Description: Package Specification; ComponentLink3URL: http://pdfserv.maximintegrated.com/package_dwgs/21-0058.PDF
footprint MAXM-U6FH-6_N (SPT23, 6-Leads, Body 2.9x1.625mm, Pitch 0.95mm, IPC Medium Density)
footprint MAXM-U6FH-6_L (SOT23, 6-Leads, Body 2.9x1.625mm, Pitch 0.95mm, IPC High Density)
footprint MAXM-U6FH-6_M (SOT23, 6-Leads, Body 2.9x1.625mm, Pitch 0.95mm, IPC Low Density)
pins: 1 GND (power) "Ground", 2 NC "No Connect. Connect to ground plane for better thermal performance to the PC board.", 3 VCC (power) "Supply Voltage Input. Bypass VCC to GND with a 0.1uF capacitor. VCC can also be powered from a logic output as long as the voltage level is greater than 3.0V and the logic output is not noisy. Setting the logic output low (See Datasheet)", 4 SCK (in) "Serial Clock Input", 5 ~{CS} (in) "Chip-Select Input. Enables the interface. A rising edge off C\S\ initiates the next conversion. Pulling C\S\ low initiates an idle state.", 6 SO (hiz) "Serial Data Output"

## MAX6630MUT#TGF6
designator U?
+ Sign Digital Temperature Sensor with Serial Interface, 12 Bits Temperature Resolution, -55 to 125 degC, 6-Pin SOT23 (U6FH-6); Generic Part Number: MAX6630; PartNumber: MAX6630MUT#TGF6; Interface: 3-Wire/SPI; Parasite Pwr.: No; DatasheetVersion: Rev. 4; PackageVersion: Rev. N, 08/2012; PackageReference: U6FH-6; PackageDescription: 6-Pin Small-Outline Transistor Package, Body 1.625 x 2.9 mm, Pitch 0.95 mm; Supplier 1: Digi-Key; Supplier Part Number 1: MAX6630MUT#TGF6-ND; Supplier 2: Mouser; Supplier Part Number 2: 700-MAX6630MUT#TGF6-; Mounting Technology: Surface Mount; Code_JEDEC: MO-178; ComponentLink1Description: Manufacturer URL; ComponentLink1URL: http://www.maximintegrated.com/; ComponentLink2Description: Datasheet; ComponentLink2URL: http://datasheets.maximintegrated.com/en/ds/MAX6629-MAX6632.pdf; ComponentLink3Description: Package Specification; ComponentLink3URL: http://pdfserv.maximintegrated.com/package_dwgs/21-0058.PDF
footprint MAXM-U6FH-6_N (SPT23, 6-Leads, Body 2.9x1.625mm, Pitch 0.95mm, IPC Medium Density)
footprint MAXM-U6FH-6_L (SOT23, 6-Leads, Body 2.9x1.625mm, Pitch 0.95mm, IPC High Density)
footprint MAXM-U6FH-6_M (SOT23, 6-Leads, Body 2.9x1.625mm, Pitch 0.95mm, IPC Low Density)
pins: 1 GND (power) "Ground", 2 NC "No Connect. Connect to ground plane for better thermal performance to the PC board.", 3 VCC (power) "Supply Voltage Input. Bypass VCC to GND with a 0.1uF capacitor. VCC can also be powered from a logic output as long as the voltage level is greater than 3.0V and the logic output is not noisy. Setting the logic output low (See Datasheet)", 4 SCK (in) "Serial Clock Input", 5 ~{CS} (in) "Chip-Select Input. Enables the interface. A rising edge off C\S\ initiates the next conversion. Pulling C\S\ low initiates an idle state.", 6 SO (hiz) "Serial Data Output"

## MAX6630MUT-T
designator U?
+ Sign Digital Temperature Sensor with Serial Interface, 12 Bits Temperature Resolution, -55 to 125 degC, 6-Pin SOT23 (U6F-6), Tape and Reel; Generic Part Number: MAX6630; PartNumber: MAX6630MUT-T; Interface: 3-Wire/SPI; Parasite Pwr.: No; DatasheetVersion: Rev. 4; PackageVersion: Rev. N, 08/2012; PackageReference: U6F-6; PackageDescription: 6-Pin Small-Outline Transistor Package, Body 1.625 x 2.9 mm, Pitch 0.95 mm; Supplier 1: Mouser; Supplier Part Number 1: N/A; Packing: Tape and Reel; Mounting Technology: Surface Mount; Code_JEDEC: MO-178; ComponentLink1Description: Manufacturer URL; ComponentLink1URL: http://www.maximintegrated.com/; ComponentLink2Description: Datasheet; ComponentLink2URL: http://datasheets.maximintegrated.com/en/ds/MAX6629-MAX6632.pdf; ComponentLink3Description: Package Specification; ComponentLink3URL: http://pdfserv.maximintegrated.com/package_dwgs/21-0058.PDF
footprint MAXM-U6F-6_N (SOT23, 6-Leads, Body 2.9x1.625mm, Pitch 0.95mm, IPC Medium Density)
footprint MAXM-U6F-6_L (SOT23, 6-Leads, Body 2.9x1.625mm, Pitch 0.95mm, IPC High Density)
footprint MAXM-U6F-6_M (SOT23, 6-Leads, Body 2.9x1.625mm, Pitch 0.95mm, IPC Low Density)
pins: 1 GND (power) "Ground", 2 NC "No Connect. Connect to ground plane for better thermal performance to the PC board.", 3 VCC (power) "Supply Voltage Input. Bypass VCC to GND with a 0.1uF capacitor. VCC can also be powered from a logic output as long as the voltage level is greater than 3.0V and the logic output is not noisy. Setting the logic output low (See Datasheet)", 4 SCK (in) "Serial Clock Input", 5 ~{CS} (in) "Chip-Select Input. Enables the interface. A rising edge off C\S\ initiates the next conversion. Pulling C\S\ low initiates an idle state.", 6 SO (hiz) "Serial Data Output"

## MAX6631MTT+
designator U?
+ Sign Digital Temperature Sensor with Serial Interface, 12 Bits Temperature Resolution, -55 to 125 degC, 6-Pin SON (T633+2), Pb-Free; Generic Part Number: MAX6631; PartNumber: MAX6631MTT+; Interface: 3-Wire/SPI; Parasite Pwr.: No; DatasheetVersion: Rev. 4; PackageVersion: Rev. J, 08/2009; PackageReference: T633+2; PackageDescription: 6-Pin Plastic Very Very Thin Dual Flatpack No Leads, Exposed Pad, Body 3 x 3 mm, Exposed Pad 2.3 x 1.5 mm, Pitch 0.95 mm; Supplier 1: Mouser; Supplier Part Number 1: N/A; Mounting Technology: Surface Mount; Code_JEDEC: MO-229; ComponentLink1Description: Manufacturer URL; ComponentLink1URL: http://www.maximintegrated.com/; ComponentLink2Description: Datasheet; ComponentLink2URL: http://datasheets.maximintegrated.com/en/ds/MAX6629-MAX6632.pdf; ComponentLink3Description: Package Specification; ComponentLink3URL: http://pdfserv.maximintegrated.com/package_dwgs/21-0137.PDF
footprint MAXM-T633+2_V (SON, 6-Leads, Body 3x3mm, Pitch 0.95mm, Thermal Pad 2.3X1.5mm)
pins: 1 NC "No Connect. Connect to ground plane for better thermal performance to the PC board", 2 GND (power) "Ground", 3 VCC (power) "Supply Voltage Input. Bypass VCC to GND with a 0.1uF capacitor. VCC can also be powered from a logic output as long as the voltage level is greater than 3.0V and the logic output is not noisy. Setting the logic output low (See Datasheet)", 4 SCK (in) "Serial Clock Input", 5 ~{CS} (in) "Chip-Select Input. Enables the interface. A rising edge off C\S\ initiates the next conversion. Pulling C\S\ low initiates an idle state", 6 SO (hiz) "Serial Data Output", 7 EP (power) "Exposed Pad (TDFN only). Connect to GND or leave unconnected"

## MAX6631MTT+T
designator U?
+ Sign Digital Temperature Sensor with Serial Interface, 12 Bits Temperature Resolution, -55 to 125 degC, 6-Pin SON (T633+2), Pb-Free, Tape and Reel; Generic Part Number: MAX6631; PartNumber: MAX6631MTT+T; Interface: 3-Wire/SPI; Parasite Pwr.: No; DatasheetVersion: Rev. 4; PackageVersion: Rev. J, 08/2009; PackageReference: T633+2; PackageDescription: 6-Pin Plastic Very Very Thin Dual Flatpack No Leads, Exposed Pad, Body 3 x 3 mm, Exposed Pad 2.3 x 1.5 mm, Pitch 0.95 mm; Supplier 1: Digi-Key; Supplier Part Number 1: MAX6631MTT+TTR-ND; Supplier 2: Digi-Key; Supplier Part Number 2: MAX6631MTT+TCT-ND; Supplier 3: Digi-Key; Supplier Part Number 3: MAX6631MTT+TDKR-ND; Supplier 4: Mouser; Supplier Part Number 4: 700-MAX6631MTTT; Packing: Tape and Reel; Mounting Technology: Surface Mount; Code_JEDEC: MO-229; ComponentLink1Description: Manufacturer URL; ComponentLink1URL: http://www.maximintegrated.com/; ComponentLink2Description: Datasheet; ComponentLink2URL: http://datasheets.maximintegrated.com/en/ds/MAX6629-MAX6632.pdf; ComponentLink3Description: Package Specification; ComponentLink3URL: http://pdfserv.maximintegrated.com/package_dwgs/21-0137.PDF
footprint MAXM-T633+2_V (SON, 6-Leads, Body 3x3mm, Pitch 0.95mm, Thermal Pad 2.3X1.5mm)
pins: 1 NC "No Connect. Connect to ground plane for better thermal performance to the PC board", 2 GND (power) "Ground", 3 VCC (power) "Supply Voltage Input. Bypass VCC to GND with a 0.1uF capacitor. VCC can also be powered from a logic output as long as the voltage level is greater than 3.0V and the logic output is not noisy. Setting the logic output low (See Datasheet)", 4 SCK (in) "Serial Clock Input", 5 ~{CS} (in) "Chip-Select Input. Enables the interface. A rising edge off C\S\ initiates the next conversion. Pulling C\S\ low initiates an idle state", 6 SO (hiz) "Serial Data Output", 7 EP (power) "Exposed Pad (TDFN only). Connect to GND or leave unconnected"

## MAX6631MUT-T
designator U?
+ Sign Digital Temperature Sensor with Serial Interface, 12 Bits Temperature Resolution, -55 to 125 degC, 6-Pin SOT23 (U6F-6), Tape and Reel; Generic Part Number: MAX6631; PartNumber: MAX6631MUT-T; Interface: 3-Wire/SPI; Parasite Pwr.: No; DatasheetVersion: Rev. 4; PackageVersion: Rev. N, 08/2012; PackageReference: U6F-6; PackageDescription: 6-Pin Small-Outline Transistor Package, Body 1.625 x 2.9 mm, Pitch 0.95 mm; Supplier 1: Mouser; Supplier Part Number 1: N/A; Packing: Tape and Reel; Mounting Technology: Surface Mount; Code_JEDEC: MO-178; ComponentLink1Description: Manufacturer URL; ComponentLink1URL: http://www.maximintegrated.com/; ComponentLink2Description: Datasheet; ComponentLink2URL: http://datasheets.maximintegrated.com/en/ds/MAX6629-MAX6632.pdf; ComponentLink3Description: Package Specification; ComponentLink3URL: http://pdfserv.maximintegrated.com/package_dwgs/21-0058.PDF
footprint MAXM-U6F-6_N (SOT23, 6-Leads, Body 2.9x1.625mm, Pitch 0.95mm, IPC Medium Density)
footprint MAXM-U6F-6_L (SOT23, 6-Leads, Body 2.9x1.625mm, Pitch 0.95mm, IPC High Density)
footprint MAXM-U6F-6_M (SOT23, 6-Leads, Body 2.9x1.625mm, Pitch 0.95mm, IPC Low Density)
pins: 1 NC "No Connect. Connect to ground plane for better thermal performance to the PC board.", 2 GND (power) "Ground", 3 VCC (power) "Supply Voltage Input. Bypass VCC to GND with a 0.1uF capacitor. VCC can also be powered from a logic output as long as the voltage level is greater than 3.0V and the logic output is not noisy. Setting the logic output low (See Datasheet)", 4 SCK (in) "Serial Clock Input", 5 ~{CS} (in) "Chip-Select Input. Enables the interface. A rising edge off C\S\ initiates the next conversion. Pulling C\S\ low initiates an idle state.", 6 SO (hiz) "Serial Data Output"

## MAX6632MTT+
designator U?
+ Sign Digital Temperature Sensor with Serial Interface, 12 Bits Temperature Resolution, -55 to 125 degC, 6-Pin SON (T633+2), Pb-Free; Generic Part Number: MAX6632; PartNumber: MAX6632MTT+; Interface: 3-Wire/SPI; Parasite Pwr.: No; DatasheetVersion: Rev. 4; PackageVersion: Rev. J, 08/2009; PackageReference: T633+2; PackageDescription: 6-Pin Plastic Very Very Thin Dual Flatpack No Leads, Exposed Pad, Body 3 x 3 mm, Exposed Pad 2.3 x 1.5 mm, Pitch 0.95 mm; Supplier 1: Mouser; Supplier Part Number 1: N/A; Mounting Technology: Surface Mount; Code_JEDEC: MO-229; ComponentLink1Description: Manufacturer URL; ComponentLink1URL: http://www.maximintegrated.com/; ComponentLink2Description: Datasheet; ComponentLink2URL: http://datasheets.maximintegrated.com/en/ds/MAX6629-MAX6632.pdf; ComponentLink3Description: Package Specification; ComponentLink3URL: http://pdfserv.maximintegrated.com/package_dwgs/21-0137.PDF
footprint MAXM-T633+2_V (SON, 6-Leads, Body 3x3mm, Pitch 0.95mm, Thermal Pad 2.3X1.5mm)
pins: 1 GND (power) "Ground", 2 NC "No Connect. Connect to ground plane for better thermal performance to the PC board.", 3 VCC (power) "Supply Voltage Input. Bypass VCC to GND with a 0.1uF capacitor. VCC can also be powered from a logic output as long as the voltage level is greater than 3.0V and the logic output is not noisy. Setting the logic output low (See Datasheet)", 4 SCK (in) "Serial Clock Input", 5 ~{CS} (in) "Chip-Select Input. Enables the interface. A rising edge off C\S\ initiates the next conversion. Pulling C\S\ low initiates an idle state.", 6 SO (hiz) "Serial Data Output", 7 EP (power) "Exposed Pad (TDFN only). Connect to GND or leave unconnected."

## MAX6632MTT+T
designator U?
+ Sign Digital Temperature Sensor with Serial Interface, -55 to 125 degC, 6-Pin SON (T633+2), Pb-Free, Tape and Reel; Generic Part Number: MAX6632; PartNumber: MAX6632MTT+T; Interface: 3-Wire/SPI; Parasite Pwr.: No; DatasheetVersion: Rev. 4; PackageVersion: Rev. J, 08/2009; PackageReference: T633+2; PackageDescription: 6-Pin Plastic Very Very Thin Dual Flatpack No Leads, Exposed Pad, Body 3 x 3 mm, Exposed Pad 2.3 x 1.5 mm, Pitch 0.95 mm; Supplier 1: Digi-Key; Supplier Part Number 1: MAX6632MTT+T-ND; Supplier 2: Mouser; Supplier Part Number 2: 700-MAX6632MTTT; Packing: Tape and Reel; Mounting Technology: Surface Mount; Code_JEDEC: MO-229; ComponentLink1Description: Manufacturer URL; ComponentLink1URL: http://www.maximintegrated.com/; ComponentLink2Description: Datasheet; ComponentLink2URL: http://datasheets.maximintegrated.com/en/ds/MAX6629-MAX6632.pdf; ComponentLink3Description: Package Specification; ComponentLink3URL: http://pdfserv.maximintegrated.com/package_dwgs/21-0137.PDF
footprint MAXM-T633+2_V (SON, 6-Leads, Body 3x3mm, Pitch 0.95mm, Thermal Pad 2.3X1.5mm)
pins: 1 GND (power) "Ground", 2 NC "No Connect. Connect to ground plane for better thermal performance to the PC board.", 3 VCC (power) "Supply Voltage Input. Bypass VCC to GND with a 0.1uF capacitor. VCC can also be powered from a logic output as long as the voltage level is greater than 3.0V and the logic output is not noisy. Setting the logic output low (See Datasheet)", 4 SCK (in) "Serial Clock Input", 5 ~{CS} (in) "Chip-Select Input. Enables the interface. A rising edge off C\S\ initiates the next conversion. Pulling C\S\ low initiates an idle state.", 6 SO (hiz) "Serial Data Output", 7 EP (power) "Exposed Pad (TDFN only). Connect to GND or leave unconnected."

## MAX6632MTT-T
designator U?
+ Sign Digital Temperature Sensor with Serial Interface, -55 to 125 degC, 6-Pin SON (T633-2), Tape and Reel; Generic Part Number: MAX6632; PartNumber: MAX6632MTT-T; Interface: 3-Wire/SPI; Parasite Pwr.: No; DatasheetVersion: Rev. 4; PackageVersion: Rev. J, 08/2009; PackageReference: T633-2; PackageDescription: 6-Pin Plastic Very Very Thin Dual Flatpack No Leads, Exposed Pad, Body 3 x 3 mm, Exposed Pad 2.3 x 1.5 mm, Pitch 0.95 mm; Supplier 1: Mouser; Supplier Part Number 1: N/A; Packing: Tape and Reel; Mounting Technology: Surface Mount; Code_JEDEC: MO-229; ComponentLink1Description: Manufacturer URL; ComponentLink1URL: http://www.maximintegrated.com/; ComponentLink2Description: Datasheet; ComponentLink2URL: http://datasheets.maximintegrated.com/en/ds/MAX6629-MAX6632.pdf; ComponentLink3Description: Package Specification; ComponentLink3URL: http://pdfserv.maximintegrated.com/package_dwgs/21-0137.PDF
footprint MAXM-T633-2_V (SON, 6-Leads, Body 3x3mm, Pitch 0.95mm, Thermal Pad 1.5x2.3mm)
pins: 1 GND (power) "Ground", 2 NC "No Connect. Connect to ground plane for better thermal performance to the PC board.", 3 VCC (power) "Supply Voltage Input. Bypass VCC to GND with a 0.1uF capacitor. VCC can also be powered from a logic output as long as the voltage level is greater than 3.0V and the logic output is not noisy. Setting the logic output low (See Datasheet)", 4 SCK (in) "Serial Clock Input", 5 ~{CS} (in) "Chip-Select Input. Enables the interface. A rising edge off C\S\ initiates the next conversion. Pulling C\S\ low initiates an idle state.", 6 SO (hiz) "Serial Data Output", 7 EP (power) "Exposed Pad (TDFN only). Connect to GND or leave unconnected."